# EAGLE library part PINHD-2X05 (library ConV3)
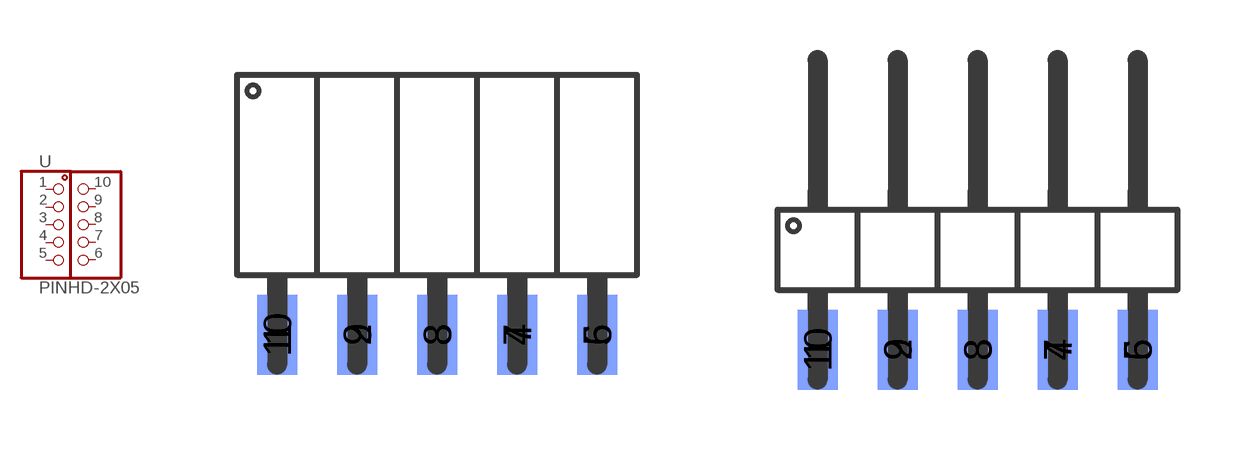
[diagram p0: symbol with the pads of 2X5_SMD/90_2MM_FEMALE; footprints 2X5_SMD/90_2MM_FEMALE, 2X5_SMD/90_2MM_MALE]

Designator prefix -

## PINHD-2X05-2MM_FEMALE  [2X5_SMD/90_2MM_FEMALE]
1  1  pas
2  2  pas
3  3  pas
4  4  pas
5  5  pas
6  6  pas
7  7  pas
8  8  pas
9  9  pas
10  10  pas

## PINHD-2X05-2MM_MALE  [2X5_SMD/90_2MM_MALE]
Pads as for 2X5_SMD/90_2MM_FEMALE

## Footprint 2X5_SMD/90_2MM_FEMALE (pad centres in mm)
smd 1 x 2: 1 -4,-2.4; 2 -2,-2.4; 3 0,-2.4; 4 2,-2.4; 5 4,-2.4
smd 1 x 2 bottom: 6 4,-2.4; 7 2,-2.4; 8 0,-2.4; 9 -2,-2.4; 10 -4,-2.4

## Footprint 2X5_SMD/90_2MM_MALE (pad centres in mm)
smd 1 x 2: 1 -4,-2.5; 2 -2,-2.5; 3 0,-2.5; 4 2,-2.5; 5 4,-2.5
smd 1 x 2 bottom: 6 4,-2.5; 7 2,-2.5; 8 0,-2.5; 9 -2,-2.5; 10 -4,-2.5